# EAGLE library part 9X2 (library IOTExpert)
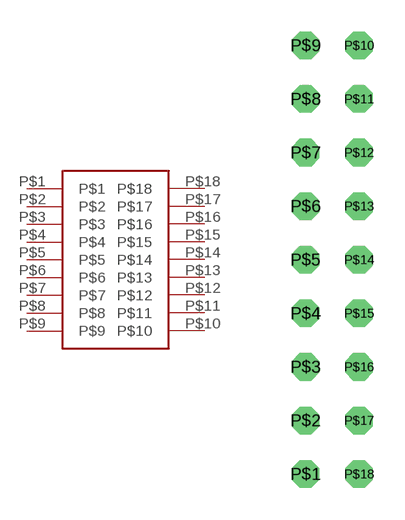
[diagram p5: symbol with the pads of 9X2; footprint 9X2]

Designator prefix -

## 9X2  [9X2]
P$1  P$1
P$2  P$2
P$3  P$3
P$4  P$4
P$5  P$5
P$6  P$6
P$7  P$7
P$8  P$8
P$9  P$9
P$10  P$10
P$11  P$11
P$12  P$12
P$13  P$13
P$14  P$14
P$15  P$15
P$16  P$16
P$17  P$17
P$18  P$18

## Footprint 9X2 (pad centres in mm)
drill 0.8 octagon: P$1 0,0; P$2 0,2.54; P$3 0,5.08; P$4 0,7.62; P$5 0,10.16; P$6 0,12.7; P$7 0,15.24; P$8 0,17.78; P$9 0,20.32; P$10 2.54,20.32; P$11 2.54,17.78; P$12 2.54,15.24; P$13 2.54,12.7; P$14 2.54,10.16; P$15 2.54,7.62; P$16 2.54,5.08; P$17 2.54,2.54; P$18 2.54,0